# EAGLE library part MSP430F12*2 (library msp430)
Mixed Signal Microcontroller 10bit ADC, USART, no LCD
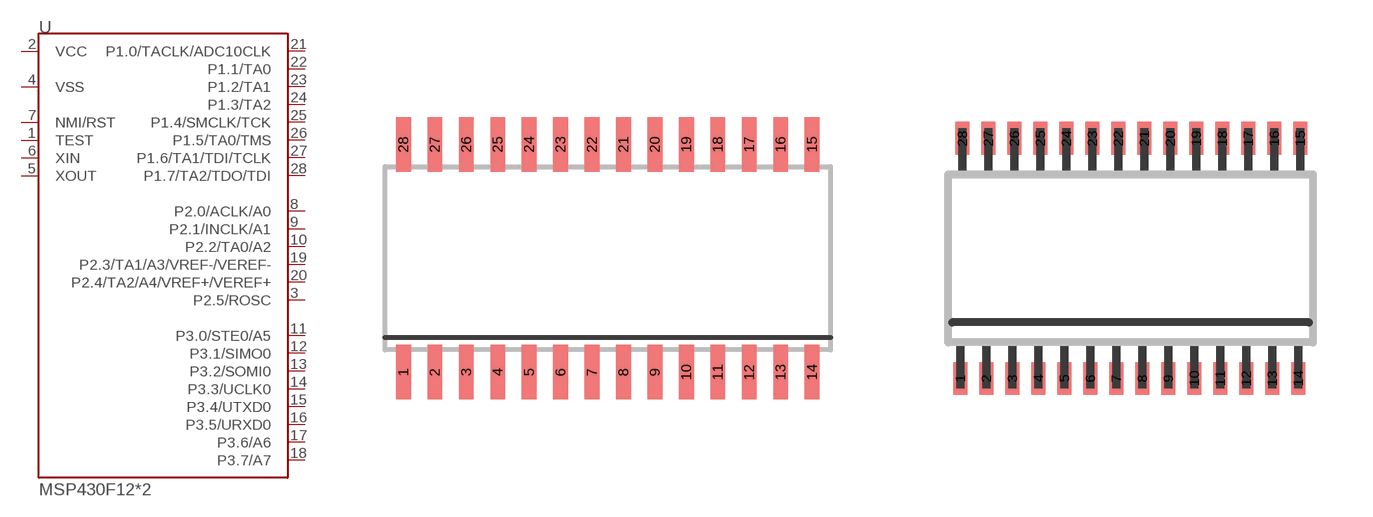
[diagram p3: symbol with the pads of SO-28(DW); footprints SO-28(DW), SO-28(PW)]

Designator prefix -

## MSP430F1222DW, MSP430F1232DW  [SO-28(DW)]
1  TEST
2  VCC  pwr
3  P2.5/ROSC
4  VSS  pwr
5  XOUT  pas
6  XIN  pas
7  NMI/RST  in
8  P2.0/ACLK/A0
9  P2.1/INCLK/A1
10  P2.2/TA0/A2
11  P3.0/STE0/A5
12  P3.1/SIMO0
13  P3.2/SOMI0
14  P3.3/UCLK0
15  P3.4/UTXD0
16  P3.5/URXD0
17  P3.6/A6
18  P3.7/A7
19  P2.3/TA1/A3/VREF-/VEREF-
20  P2.4/TA2/A4/VREF+/VEREF+
21  P1.0/TACLK/ADC10CLK
22  P1.1/TA0
23  P1.2/TA1
24  P1.3/TA2
25  P1.4/SMCLK/TCK
26  P1.5/TA0/TMS
27  P1.6/TA1/TDI/TCLK
28  P1.7/TA2/TDO/TDI

## MSP430F1222PW, MSP430F1232PW  [SO-28(PW)]
Pads as for SO-28(DW)

## MSP430F1222RHB, MSP430F1232RHB  [S-PQFP-N32(RHB)]
1  VSS  pwr
2  XOUT  pas
3  XIN  pas
5  NMI/RST  in
6  P2.0/ACLK/A0
7  P2.1/INCLK/A1
8  P2.2/TA0/A2
9  P3.0/STE0/A5
10  P3.1/SIMO0
11  P3.2/SOMI0
12  P3.3/UCLK0
13  P3.4/UTXD0
14  P3.5/URXD0
15  P3.6/A6
16  P3.7/A7
18  P2.3/TA1/A3/VREF-/VEREF-
19  P2.4/TA2/A4/VREF+/VEREF+
21  P1.0/TACLK/ADC10CLK
22  P1.1/TA0
23  P1.2/TA1
24  P1.3/TA2
25  P1.4/SMCLK/TCK
26  P1.5/TA0/TMS
27  P1.6/TA1/TDI/TCLK
28  P1.7/TA2/TDO/TDI
29  TEST
30  VCC  pwr
32  P2.5/ROSC

## Footprint SO-28(DW) (pad centres in mm)
smd 0.6 x 2.2: 1 -8.255,-4.6; 2 -6.985,-4.6; 3 -5.715,-4.6; 4 -4.445,-4.6; 5 -3.175,-4.6; 6 -1.905,-4.6; 7 -0.635,-4.6; 8 0.635,-4.6; 9 1.905,-4.6; 10 3.175,-4.6; 11 4.445,-4.6; 12 5.715,-4.6; 13 6.985,-4.6; 14 8.255,-4.6; 15 8.255,4.6; 16 6.985,4.6; 17 5.715,4.6; 18 4.445,4.6; 19 3.175,4.6; 20 1.905,4.6; 21 0.635,4.6; 22 -0.635,4.6; 23 -1.905,4.6; 24 -3.175,4.6; 25 -4.445,4.6; 26 -5.715,4.6; 27 -6.985,4.6; 28 -8.255,4.6

## Footprint SO-28(PW) (pad centres in mm)
smd 0.35 x 0.813: 1 -4.25,-3; 2 -3.6,-3; 3 -2.95,-3; 4 -2.3,-3; 5 -1.65,-3; 6 -1,-3; 7 -0.35,-3; 8 0.3,-3; 9 0.95,-3; 10 1.6,-3; 11 2.25,-3; 12 2.9,-3; 13 3.55,-3; 14 4.2,-3; 15 4.25,3; 16 3.6,3; 17 2.95,3; 18 2.3,3; 19 1.65,3; 20 1,3; 21 0.35,3; 22 -0.3,3; 23 -0.95,3; 24 -1.6,3; 25 -2.25,3; 26 -2.9,3; 27 -3.55,3; 28 -4.2,3

## Footprint S-PQFP-N32(RHB) (pad centres in mm)
smd 0.8 x 0.3: 1 -2.5,1.75; 2 -2.5,1.25; 3 -2.5,0.75; 4 -2.5,0.25; 5 -2.5,-0.25; 6 -2.5,-0.75; 7 -2.5,-1.25; 8 -2.5,-1.75; 17 2.5,-1.75; 18 2.5,-1.25; 19 2.5,-0.75; 20 2.5,-0.25; 21 2.5,0.25; 22 2.5,0.75; 23 2.5,1.25; 24 2.5,1.75
smd 0.3 x 0.8: 9 -1.75,-2.5; 10 -1.25,-2.5; 11 -0.75,-2.5; 12 -0.25,-2.5; 13 0.25,-2.5; 14 0.75,-2.5; 15 1.25,-2.5; 16 1.75,-2.5; 25 1.75,2.5; 26 1.25,2.5; 27 0.75,2.5; 28 0.25,2.5; 29 -0.25,2.5; 30 -0.75,2.5; 31 -1.25,2.5; 32 -1.75,2.5